# EAGLE library part 634008137221 (library Wuerth_Elektronik_eiCan_Modular_Jack_Connectors_v1.1)
WR-MJ Horizontal Plastic SMT 8P8C Modular Jack Tab Down, 8 Pins
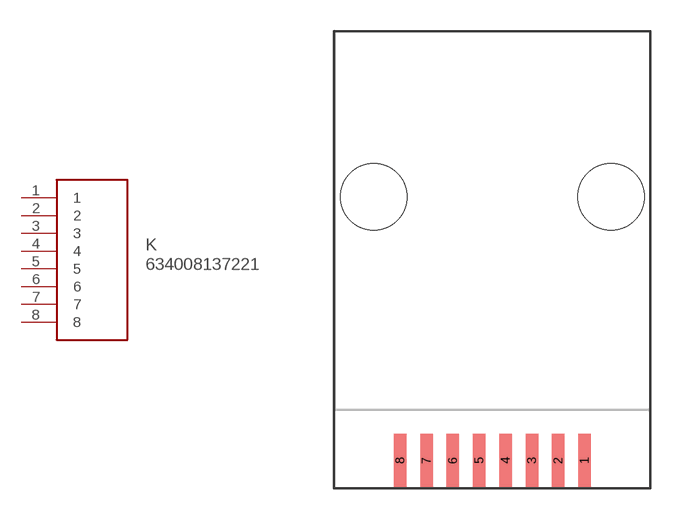
[diagram p42: symbol with the pads of 634008137221; footprint 634008137221]

Designator prefix K

## 634008137221  [634008137221]
1  1  pas
2  2  pas
3  3  pas
4  4  pas
5  5  pas
6  6  pas
7  7  pas
8  8  pas

## Footprint 634008137221 (pad centres in mm)
WR-MJ Horizontal Plastic SMT 8P8C Modular Jack Tab Down, 8 Pins
smd 0.6 x 2.54: 1 4.445,0; 2 3.175,0; 3 1.905,0; 4 0.635,0; 5 -0.635,0; 6 -1.905,0; 7 -3.175,0; 8 -4.445,0
hole 3.2 at 5.715,12.7
hole 3.2 at -5.715,12.7